# Altium footprint library PCB - RESISTOR - ARRAY - RESNET 1206-8 CONCAVE.PcbLib: 1 footprints
Each footprint in its own frame and in the unit in brackets; x right, y up, seen from the top. Pads: shape width x height; smd on the part's side, far side on the other; paste and mask are expansions set on the pad; w line width, h text height; cw(c..) or ccw(c..) is an arc to the next point about the centre after c.
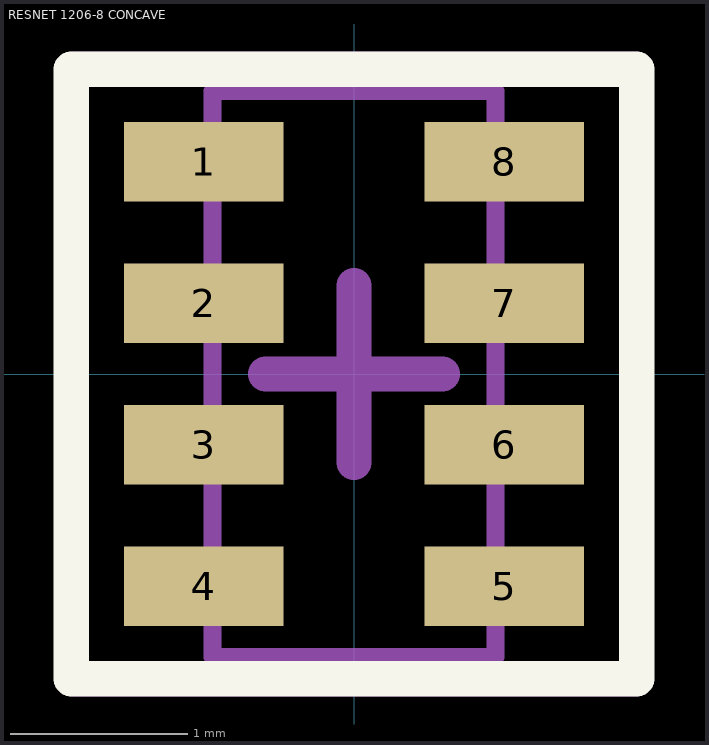
[diagram p0: the footprint, top view; thin cyan lines are the x and y axes]

## RESNET 1206-8 CONCAVE [mm] "4 resistor 3.20x1.60mm, 0.7mm high"
height 0.7
pads (8):
  rect 0.9x0.45 smd: 1(-0.85,1.2) 2(-0.85,0.4) 3(-0.85,-0.4) 4(-0.85,-1.2) 5(0.85,-1.2) 6(0.85,-0.4) 7(0.85,0.4) 8(0.85,1.2)
Top Overlay:
  lines w0.2: -1.6,-1.725 -1.6,1.725 1.6,1.725 1.6,-1.725 -1.6,-1.725
Mechanical 13:
  lines w0.1: -0.8,-1.6 0.8,-1.6 0.8,1.6 -0.8,1.6 -0.8,-1.6
Mechanical 15:
  lines w0.05: -1.6,-1.8 1.6,-1.8 1.6,1.8 -1.6,1.8 -1.6,-1.8
Mechanical 2 (Mech9):
  lines w0.2: -0.5,0 0.5,0 ; 0,-0.5 0,0.5
3D body "RESNET - 1206 Concave.step": height 0.6, standoff 0, extent -0.85,-1.65 0.85,1.65